# Altium footprint library modulo_comunicacion_pcblib.PcbLib: 6 footprints
Each footprint in its own frame and in the unit in brackets; x right, y up, seen from the top. Pads: shape width x height; smd on the part's side, far side on the other; paste and mask are expansions set on the pad; w line width, h text height; cw(c..) or ccw(c..) is an arc to the next point about the centre after c.
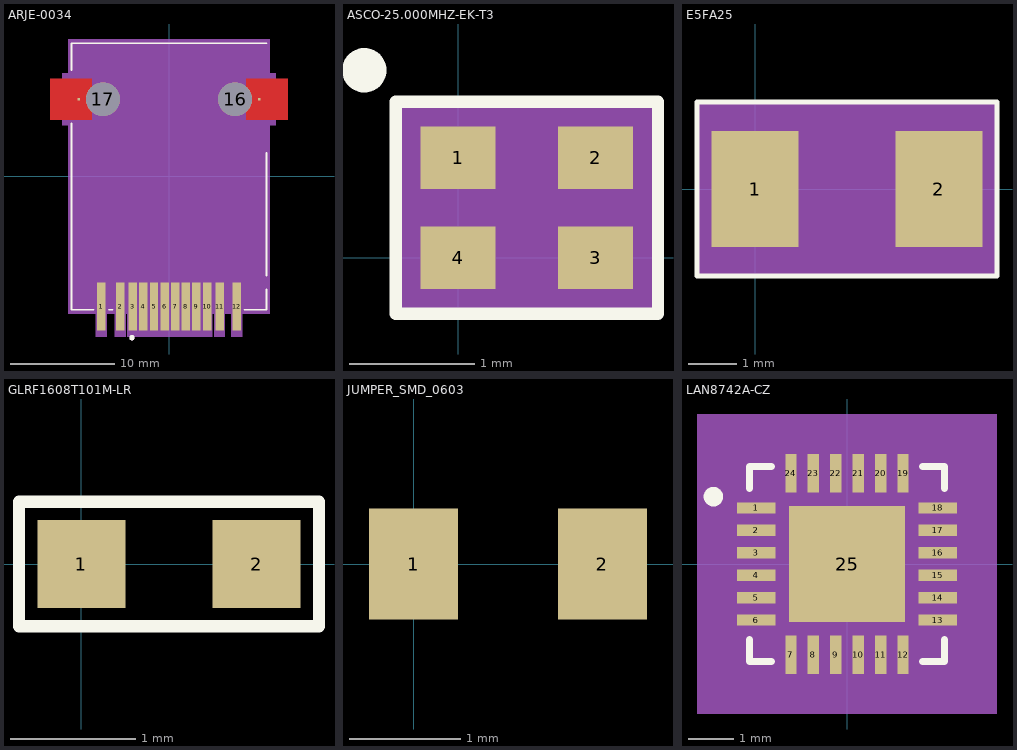
[diagram p0: the footprints below, top view; thin cyan lines are the x and y axes]

## ARJE-0034 [mil]
pads (16):
  rect 32x181 smd paste+0 mask+0: 1(-256.69,-492.18) 2(-184.25,-492.18) 3(-137.01,-492.18) 4(-96.85,-492.18) 5(-56.69,-492.18) 6(-16.54,-492.18) 7(23.62,-492.18) 8(63.78,-492.18) 9(103.94,-492.18) 10(144.09,-492.18) 11(191.34,-492.18) 12(256.69,-492.18)
  rect 10x10 smd: 13(-341.34,292.11) 14(341.34,292.11)
  round 128 hole 128: 16(250,292.11) 17(-250,292.11)
Top Layer:
  region: -292.34,215.11 -292.34,369.11 -450,369.11 -450,215.11
  region: 450,215.11 450,369.11 292.34,369.11 292.34,215.11
Top Overlay:
  circle w10: c-140,-610 r5
  lines w6: -368.95,202.01 -368.95,-504.03 -285.79,-504.03 ; -368.95,401.59 -368.95,504.03 368.95,504.03 ; -227.59,-504.03 -213.35,-504.03 ; 285.79,-504.03 368.95,-504.03 368.95,-427.77 ; 368.95,-375.59 368.95,88.76
Top Paste:
  region: -292.34,215.11 -292.34,369.11 -390.34,369.11 -390.34,215.11
  region: 390.34,215.11 390.34,369.11 292.34,369.11 292.34,215.11
Top Solder:
  region: -292.34,215.11 -292.34,369.11 -390.34,369.11 -390.34,215.11
  region: 390.34,369.11 292.34,369.11 292.34,215.11 390.34,215.11
Mechanical 5:
  region: 84.13,-607.3 124.29,-607.3 164.45,-607.3 164.45,-520.17 170.99,-520.17 170.99,-607.3 211.69,-607.3 211.69,-520.17 236.34,-520.17 236.34,-607.3 277.05,-607.3 277.05,-520.17 380.77,-520.17 380.77,194.02 403.76,194.02 403.76,390.21 380.77,390.21 380.77,520.17 -380.77,520.17 -380.77,390.21 -403.76,390.21 -403.76,194.02 -380.77,194.02 -380.77,-520.17 -277.05,-520.17 -277.05,-607.3 -236.34,-607.3 -236.34,-520.17 -204.6,-520.17 -204.6,-607.3 -163.9,-607.3 -163.9,-520.17 -157.36,-520.17 -157.36,-607.3 -116.66,-607.3 -76.5,-607.3 -36.34,-607.3 3.82,-607.3 43.97,-607.3
Mechanical 13:
  circle w10: c-140,-610 r5
  lines w1: 234.84,-500 259.84,-550 284.84,-500 ; -366,-500 -366,500 366,500 366,-500 -366,-500
Mechanical 15:
  region: 81.52,-508.07 86.2,-508.07 86.2,-592.52 121.68,-592.52 121.68,-508.07 126.35,-508.07 126.35,-592.52 161.84,-592.52 161.84,-508.07 173.6,-508.07 173.6,-592.52 209.08,-592.52 209.08,-508.07 238.95,-508.07 238.95,-592.52 274.43,-592.52 274.43,-508.07 371.91,-508.07 371.91,206.68 395.71,206.68 395.71,377.55 371.91,377.55 371.91,508.07 -371.91,508.07 -371.91,377.55 -395.71,377.55 -395.71,206.68 -371.91,206.68 -371.91,-508.07 -274.43,-508.07 -274.43,-592.52 -238.95,-592.52 -238.95,-508.07 -201.99,-508.07 -201.99,-592.52 -166.51,-592.52 -166.51,-508.07 -154.75,-508.07 -154.75,-592.52 -119.27,-592.52 -119.27,-508.07 -114.59,-508.07 -114.59,-592.52 -79.11,-592.52 -79.11,-508.07 -74.43,-508.07 -74.43,-592.52 -38.95,-592.52 -38.95,-508.07 -34.28,-508.07 -34.28,-592.52 1.21,-592.52 1.21,-508.07 5.88,-508.07 5.88,-592.52 41.36,-592.52 41.36,-508.07 46.04,-508.07 46.04,-592.52 81.52,-592.52
  lines w6: -395.71,206.68 -371.91,206.68 -371.91,-508.07 -274.43,-508.07 -274.43,-592.52 -238.95,-592.52 -238.95,-508.07 -201.99,-508.07 -201.99,-592.52 -166.51,-592.52 -166.51,-508.07 -154.75,-508.07 -154.75,-592.52 -119.27,-592.52 -119.27,-508.07 -114.59,-508.07 -114.59,-592.52 -79.11,-592.52 -79.11,-508.07 -74.43,-508.07 -74.43,-592.52 -38.95,-592.52 -38.95,-508.07 -34.28,-508.07 -34.28,-592.52 1.21,-592.52 1.21,-508.07 5.88,-508.07 5.88,-592.52 41.36,-592.52 41.36,-508.07 46.04,-508.07 46.04,-592.52 81.52,-592.52 81.52,-508.07 86.2,-508.07 86.2,-592.52 121.68,-592.52 121.68,-508.07 126.35,-508.07 126.35,-592.52 161.84,-592.52 161.84,-508.07 173.6,-508.07 173.6,-592.52 209.08,-592.52 209.08,-508.07 238.95,-508.07 238.95,-592.52 274.43,-592.52 274.43,-508.07 371.91,-508.07 371.91,206.68 395.71,206.68 395.71,377.55 371.91,377.55 371.91,508.07 -371.91,508.07 -371.91,377.55 -395.71,377.55 -395.71,206.68
3D body "ARJE-0034.STEP": height 659.59, standoff -12.8, extent -406.59,-568.5 406.59,505.55

## ASCO-25.000MHZ-EK-T3 [mm]
pads (4):
  rect 0.6x0.5 smd: 1(0,0.8) 2(1.1,0.8) 3(1.1,0) 4(0,0)
Top Overlay:
  circle w0.254: c-0.75,1.5 r0.05
  lines w0.1: -0.5,-0.45 1.6,-0.45 1.6,1.25 -0.5,1.25 -0.5,-0.45
Mechanical 5:
  rectangle: -0.5,-0.45 1.6,1.25
3D body: height 0.6, standoff 0, extent -0.45,-0.4 1.55,1.2
3D body: height 0.25, standoff -0.22, extent -0.45,1.2 -0.45,1.2

## E5FA25 [mm]
pads (2):
  rect 1.8x2.4 smd: 1(0,0) 2(3.8,0)
Top Overlay:
  lines w0.1: -1.2,-1.8 5,-1.8 5,1.8 -1.2,1.8 -1.2,0.9 -1.2,-0.9 -1.2,-1.8
Mechanical 5:
  rectangle: -1.2,-1.8 5,1.8
3D body: height 1.4, standoff 0, extent -0.4,-1.4 4.2,1.4
3D body: height 1, standoff 0, extent -0.6,-1.6 4.4,1.6

## GLRF1608T101M-LR [mm]
pads (2):
  rect 0.7x0.7 smd: 1(0,0) 2(1.4,0)
Top Overlay:
  lines w0.1: -0.5,-0.5 -0.5,0.5 1.9,0.5 1.9,-0.5 -0.5,-0.5
3D body "FB_1608.STEP": height 0.8, standoff 0, extent -0.1,-0.4 1.5,0.4

## JUMPER_SMD_0603 [mm]
pads (2):
  rect 0.8x1 smd: 1(0,0) 2(1.7,0)
3D body "yageo_resistor_0603.STEP": height 0.45, standoff -0.02, extent 0.05,-0.4 1.65,0.4

## LAN8742A-CZ [mil]
pads (25):
  rect 34x9.84 smd paste+0 mask+0: 1(-79.5,49.21) 2(-79.5,29.53) 3(-79.5,9.84) 4(-79.5,-9.84) 5(-79.5,-29.53) 6(-79.5,-49.21) 13(79.5,-49.21) 14(79.5,-29.53) 15(79.5,-9.84) 16(79.5,9.84) 17(79.5,29.53) 18(79.5,49.21)
  rect 9.84x34 smd paste+0 mask+0: 7(-49.21,-79.5) 8(-29.53,-79.5) 9(-9.84,-79.5) 10(9.84,-79.5) 11(29.53,-79.5) 12(49.21,-79.5) 19(49.21,79.5) 20(29.53,79.5) 21(9.84,79.5) 22(-9.84,79.5) 23(-29.53,79.5) 24(-49.21,79.5)
  rect 102x102 smd paste-50.5 mask+0: 25(0,0)
Top Overlay:
  circle w10: c-117.13,59.06 r3.55
  lines w6: -85.5,-66.31 -85.5,-85.5 -66.31,-85.5 ; -85.5,66.31 -85.5,85.5 -66.31,85.5 ; 66.31,-85.5 85.5,-85.5 85.5,-66.31 ; 66.31,85.5 85.5,85.5 85.5,66.31
Top Paste:
  region: -3.94,47.06 -47.06,47.06 -47.06,3.94 -3.94,3.94
  region: -3.94,-3.94 -47.06,-3.94 -47.06,-47.06 -3.94,-47.06
  region: 47.06,47.06 3.94,47.06 3.94,3.94 47.06,3.94
  region: 47.06,-3.94 3.94,-3.94 3.94,-47.06 47.06,-47.06
Mechanical 1:
  region: 131.5,-131.5 -131.5,-131.5 -131.5,131.5 131.5,131.5
Mechanical 13:
  lines w1: -80.5,-80.5 80.5,-80.5 80.5,80.5 -80.5,80.5 -80.5,-80.5 ; -80.5,-55.21 -80.5,-43.21 -80.5,-55.21 ; -80.5,-35.53 -80.5,-23.53 -80.5,-35.53 ; -80.5,-15.84 -80.5,-3.84 -80.5,-15.84 ; -80.5,3.84 -80.5,15.84 -80.5,3.84 ; -80.5,23.53 -80.5,35.53 -80.5,23.53 ; -80.5,43.21 -80.5,55.21 -80.5,43.21 ; -55.21,-80.5 -43.21,-80.5 -55.21,-80.5 ; -55.21,80.5 -43.21,80.5 -55.21,80.5 ; -35.53,-80.5 -23.53,-80.5 -35.53,-80.5 ; -35.53,80.5 -23.53,80.5 -35.53,80.5 ; -15.84,-80.5 -3.84,-80.5 -15.84,-80.5 ; -15.84,80.5 -3.84,80.5 -15.84,80.5 ; 3.84,-80.5 15.84,-80.5 3.84,-80.5 ; 3.84,80.5 15.84,80.5 3.84,80.5 ; 23.53,-80.5 35.53,-80.5 23.53,-80.5 ; 23.53,80.5 35.53,80.5 23.53,80.5 ; 43.21,-80.5 55.21,-80.5 43.21,-80.5 ; 43.21,80.5 55.21,80.5 43.21,80.5 ; 80.5,-55.21 80.5,-43.21 80.5,-55.21 ; 80.5,-35.53 80.5,-23.53 80.5,-35.53 ; 80.5,-15.84 80.5,-3.84 80.5,-15.84 ; 80.5,3.84 80.5,15.84 80.5,3.84 ; 80.5,23.53 80.5,35.53 80.5,23.53 ; 80.5,43.21 80.5,55.21 80.5,43.21
3D body: height 10, standoff 0, extent 0,0 10,10
3D body "SQFN24_4X4MC-M.step": height 55.12, standoff 0, extent -80.51,-80.5 80.52,80.52